# Altium footprint library RCU.PcbLib: 5 footprints
Each footprint in its own frame and in the unit in brackets; x right, y up, seen from the top. Pads: shape width x height; smd on the part's side, far side on the other; paste and mask are expansions set on the pad; w line width, h text height; cw(c..) or ccw(c..) is an arc to the next point about the centre after c.
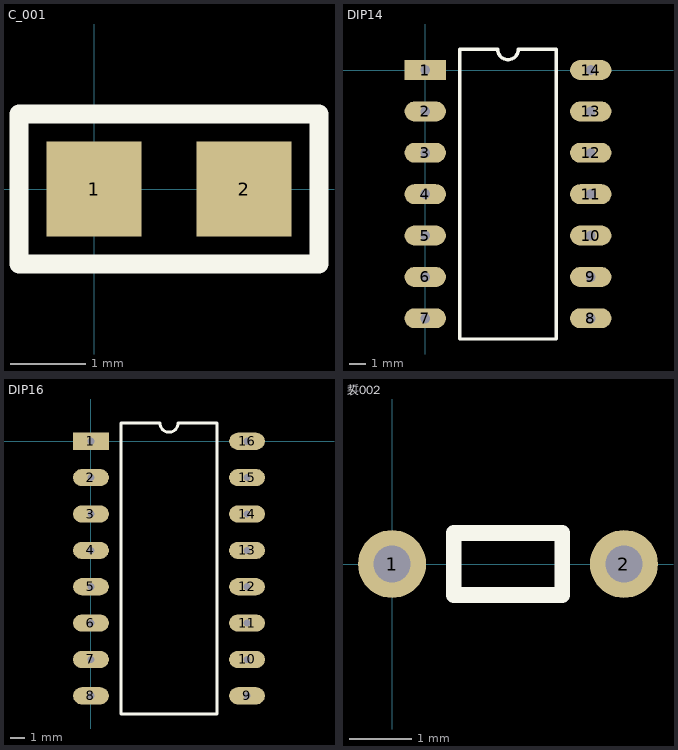
[diagram p0: the footprints below, top view; thin cyan lines are the x and y axes]

## C_001 [mm]
pads (2):
  rect 1.27x1.27 smd: 1(0,0) 2(2,0)
Top Overlay:
  lines w0.254: -1,-1 3,-1 3,1 -1,1 -1,-1

## DIP14 [mm]
pads (14):
  rect 2.5x1.2 hole 0.6: 1(0,0)
  oval 2.5x1.2 hole 0.6: 2(0,-2.5) 3(0,-5) 4(0,-7.5) 5(0,-10) 6(0,-12.5) 7(0,-15) 8(10,-15) 9(10,-12.5) 10(10,-10) 11(10,-7.5) 12(10,-5) 13(10,-2.5) 14(10,0)
Top Overlay:
  lines w0.2: 2.085,-16.25 2.085,1.25 4.375,1.25 ccw(c5,1.25) 5.625,1.25 7.915,1.25 7.915,-16.25 2.085,-16.25

## DIP16 [mm]
pads (16):
  rect 2.5x1.2 hole 0.5: 1(0,0)
  oval 2.5x1.2 hole 0.5: 2(0,-2.54) 3(0,-5.08) 4(0,-7.62) 5(0,-10.16) 6(0,-12.7) 7(0,-15.24) 8(0,-17.78) 9(10.9,-17.78) 10(10.9,-15.24) 11(10.9,-12.7) 12(10.9,-10.16) 13(10.9,-7.62) 14(10.9,-5.08) 15(10.9,-2.54) 16(10.9,0)
Top Overlay:
  lines w0.2: 2.085,-19.05 8.815,-19.05 8.815,1.27 6.085,1.27 cw(c5.45,1.27) 4.815,1.27 2.085,1.27 2.085,-19.05

## PCBComponent_1 [mm]

## 裚002 [mm]
pads (2):
  round 1.1 hole 0.6: 1(0,0) 2(3.75,0)
Top Overlay:
  lines w0.254: 1,-0.5 2.75,-0.5 2.75,0.5 1,0.5 1,-0.5